# EAGLE library part USB_UART (library PIC32)
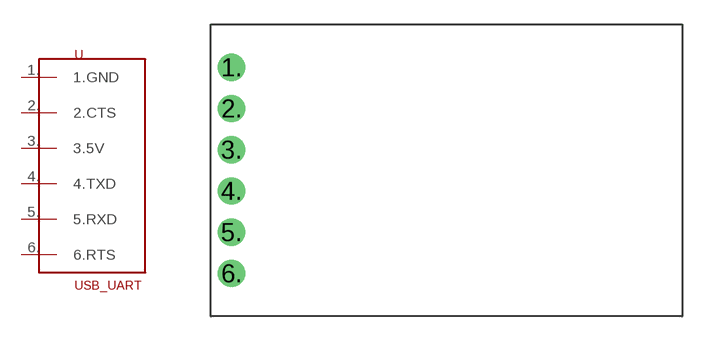
[diagram p9: symbol with the pads of USB_UART; footprint USB_UART]

Designator prefix -

## USB_UART  [USB_UART]
1.  1.GND
2.  2.CTS
3.  3.5V
4.  4.TXD
5.  5.RXD
6.  6.RTS

## Footprint USB_UART (pad centres in mm)
drill 1.02 pad 1.676: 1. -5.08,6.35; 2. -5.08,3.81; 3. -5.08,1.27; 4. -5.08,-1.27; 5. -5.08,-3.81; 6. -5.08,-6.35